# Altium schematic symbol library cf2loco.SchLib: 10 symbols
Pins are listed as number, name and electrical type; pins without a type are passive.

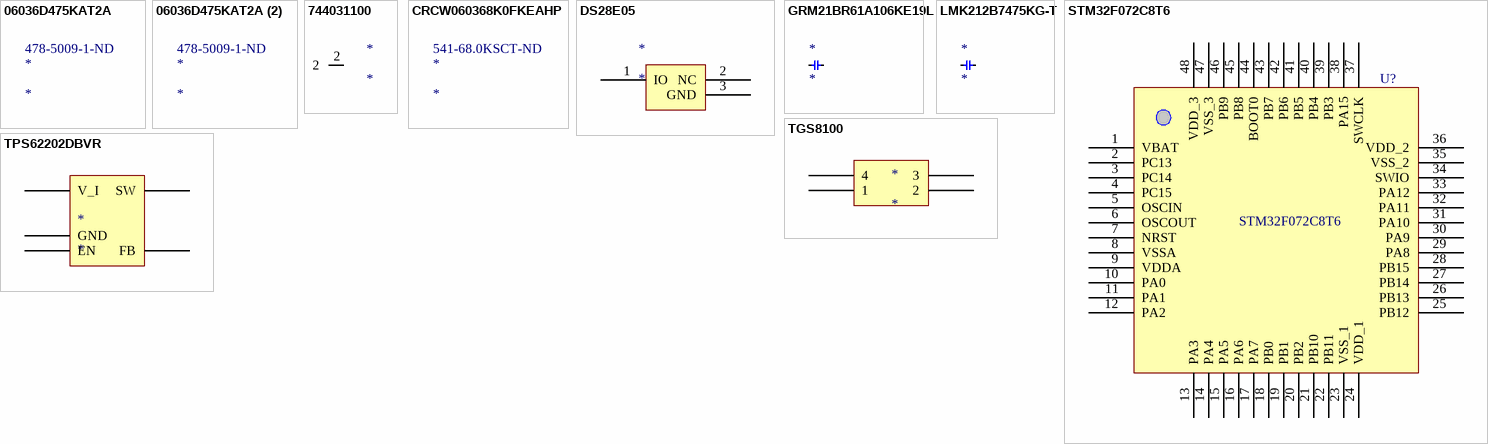
[diagram p0: symbols 06036D475KAT2A to TPS62202DBVR]

## 06036D475KAT2A
designator *  Supplier Part Number 1: 478-5009-1-ND
AVX - 06036D475KAT2A - SMD Multilayer Ceramic Capacitor, 4.7 F, 10%, X5R, 6.3 V, 0603 [1608 Metric] RoHS Compliant: Yes; Manufacturer: Kyocera AVX; Capacitance: 4.7uF; Tolerance: 20%; Voltage Rating (DC): 6.3V; Supplier 1: Digi-Key; Manufacturer Part Number: 06036D475KAT2A; RoHS: Yes; Category: Ceramic Capacitors; Stock 1: 13028; Pricing 1: 1=0.17000, 10=0.12300, 50=0.06980, 100=0.05790, 500=0.04060, 1000=0.03361 (USD); Mount: Surface Mount,PCB; Case/Package: 0603; Number of Pins: 2; Case Code (Metric): 1608; Case Code (Imperial): 0603; Contact Plating: Tin,Matte; Dielectric Material: Ceramic; Min Operating Temperature: -55°C; Max Operating Temperature: 85°C; Dielectric: X5R; Packaging: Tape and Reel; Voltage Rating: 6.3V; Package Quantity: 1; Termination: SMD/SMT; Voltage: 6.3V; Length: 1.6mm; Height: 0.9mm; Depth: 0.81mm; Width: 0.032inch; Thickness: 0.035inch; Radiation Hardening: No; REACH SVHC: No SVHC; Lead Free: Lead Free; ComponentLink1URL: https://datasheet.ciiva.com/1458/1796776-1458120.pdf?src-supplier=Element14; ComponentLink1Description: https://datasheet.ciiva.com/1458/1796776-1458120.pdf?src-supplier=Element14; ComponentLink2URL: https://datasheet.ciiva.com/15212/getdatasheetpartid-149720-15212362.pdf?src-supplier=Verical; ComponentLink2Description: https://datasheet.ciiva.com/15212/getdatasheetpartid-149720-15212362.pdf?src-supplier=Verical; ComponentLink3URL: https://datasheet.ciiva.com/151/cx5r-151515.pdf?src-supplier=Digi-Key; ComponentLink3Description: https://datasheet.ciiva.com/151/cx5r-151515.pdf?src-supplier=Digi-Key; ComponentLink4URL: https://datasheet.ciiva.com/151/cx5r-151516.pdf?src-supplier=Digi-Key; ComponentLink4Description: https://datasheet.ciiva.com/151/cx5r-151516.pdf?src-supplier=Digi-Key; ComponentLink5URL: https://datasheet.ciiva.com/22677/lt-22677180.pdf?src-supplier=Element14; ComponentLink5Description: https://datasheet.ciiva.com/22677/lt-22677180.pdf?src-supplier=Element14; ComponentLink6URL: https://datasheet.ciiva.com/22700/1796776-22700572.pdf?src-supplier=Element14; ComponentLink6Description: https://datasheet.ciiva.com/22700/1796776-22700572.pdf?src-supplier=Element14; ComponentLink7URL: https://datasheet.ciiva.com/151/cx5r-151517.pdf?src-supplier=Digi-Key; ComponentLink7Description: https://datasheet.ciiva.com/151/cx5r-151517.pdf?src-supplier=Digi-Key; ComponentLink8URL: https://datasheet.ciiva.com/2987/cx5r-2987869.pdf?src-supplier=Avnet; ComponentLink8Description: https://datasheet.ciiva.com/2987/cx5r-2987869.pdf?src-supplier=Avnet; ComponentLink9URL: https://datasheet.ciiva.com/6150/lt-6150797.pdf?src-supplier=Farnell; ComponentLink9Description: https://datasheet.ciiva.com/6150/lt-6150797.pdf?src-supplier=Farnell; ComponentLink10URL: https://datasheet.ciiva.com/7855/1666675-7855102.pdf?src-supplier=Element14; ComponentLink10Description: https://datasheet.ciiva.com/7855/1666675-7855102.pdf?src-supplier=Element14

## 06036D475KAT2A (2)
designator *  Supplier Part Number 1: 478-5009-1-ND
AVX - 06036D475KAT2A - SMD Multilayer Ceramic Capacitor, 4.7 F, 10%, X5R, 6.3 V, 0603 [1608 Metric] RoHS Compliant: Yes; Manufacturer: Kyocera AVX; Capacitance: 4.7uF; Tolerance: 20%; Voltage Rating (DC): 6.3V; Supplier 1: Digi-Key; Manufacturer Part Number: 06036D475KAT2A; RoHS: Yes; Category: Ceramic Capacitors; Stock 1: 13028; Pricing 1: 1=0.17000, 10=0.12300, 50=0.06980, 100=0.05790, 500=0.04060, 1000=0.03361 (USD); Mount: Surface Mount,PCB; Case/Package: 0603; Number of Pins: 2; Case Code (Metric): 1608; Case Code (Imperial): 0603; Contact Plating: Tin,Matte; Dielectric Material: Ceramic; Min Operating Temperature: -55°C; Max Operating Temperature: 85°C; Dielectric: X5R; Packaging: Tape and Reel; Voltage Rating: 6.3V; Package Quantity: 1; Termination: SMD/SMT; Voltage: 6.3V; Length: 1.6mm; Height: 0.9mm; Depth: 0.81mm; Width: 0.032inch; Thickness: 0.035inch; Radiation Hardening: No; REACH SVHC: No SVHC; Lead Free: Lead Free; ComponentLink1URL: https://datasheet.ciiva.com/1458/1796776-1458120.pdf?src-supplier=Element14; ComponentLink1Description: https://datasheet.ciiva.com/1458/1796776-1458120.pdf?src-supplier=Element14; ComponentLink2URL: https://datasheet.ciiva.com/15212/getdatasheetpartid-149720-15212362.pdf?src-supplier=Verical; ComponentLink2Description: https://datasheet.ciiva.com/15212/getdatasheetpartid-149720-15212362.pdf?src-supplier=Verical; ComponentLink3URL: https://datasheet.ciiva.com/151/cx5r-151515.pdf?src-supplier=Digi-Key; ComponentLink3Description: https://datasheet.ciiva.com/151/cx5r-151515.pdf?src-supplier=Digi-Key; ComponentLink4URL: https://datasheet.ciiva.com/151/cx5r-151516.pdf?src-supplier=Digi-Key; ComponentLink4Description: https://datasheet.ciiva.com/151/cx5r-151516.pdf?src-supplier=Digi-Key; ComponentLink5URL: https://datasheet.ciiva.com/22677/lt-22677180.pdf?src-supplier=Element14; ComponentLink5Description: https://datasheet.ciiva.com/22677/lt-22677180.pdf?src-supplier=Element14; ComponentLink6URL: https://datasheet.ciiva.com/22700/1796776-22700572.pdf?src-supplier=Element14; ComponentLink6Description: https://datasheet.ciiva.com/22700/1796776-22700572.pdf?src-supplier=Element14; ComponentLink7URL: https://datasheet.ciiva.com/151/cx5r-151517.pdf?src-supplier=Digi-Key; ComponentLink7Description: https://datasheet.ciiva.com/151/cx5r-151517.pdf?src-supplier=Digi-Key; ComponentLink8URL: https://datasheet.ciiva.com/2987/cx5r-2987869.pdf?src-supplier=Avnet; ComponentLink8Description: https://datasheet.ciiva.com/2987/cx5r-2987869.pdf?src-supplier=Avnet; ComponentLink9URL: https://datasheet.ciiva.com/6150/lt-6150797.pdf?src-supplier=Farnell; ComponentLink9Description: https://datasheet.ciiva.com/6150/lt-6150797.pdf?src-supplier=Farnell; ComponentLink10URL: https://datasheet.ciiva.com/7855/1666675-7855102.pdf?src-supplier=Element14; ComponentLink10Description: https://datasheet.ciiva.com/7855/1666675-7855102.pdf?src-supplier=Element14

## 744031100
designator *
FIXED IND 10UH 740MA 205 MOHM; Manufacturer: Wurth Electronics; Manufacturer Part Number: 744031100; Core Material: Ferrite; Inductance Tolerance: 30%; Self Resonant Frequency: 45MHz; Saturation Current: 560mA; Shielding: Shielded; DC Resistance (DCR): 205mR; Test Frequency: 100kHz; Supplier 1: Digi-Key; RoHS: Yes; Stock 1: 2373; Pricing 1: 1=1.43000, 10=1.38900, 50=1.21500, 100=1.11100, 500=0.98000 (USD); Mount: Surface Mount; Weight: 0.003633oz; Max Operating Temperature: 125°C; Inductance: 10uH; Tolerance: 30%; Package Quantity: 1000; Current Rating: 740mA; Packaging: Tape and Reel; Composition: Wirewound; Max DC Current: 740mA; Termination: SMD/SMT; RMS Current (Irms): 740mA; Series Resistance: 205mR; Length: 3.8mm; Height: 1.65mm; Width: 3.8mm; Height - Seated (Max): 0.071inch; REACH SVHC: Unknown; Lead Free: Lead Free; ComponentLink1URL: https://datasheet.ciiva.com/11799/0900766b8079f7b2-11799684.pdf?src-supplier=RSComponents; ComponentLink1Description: https://datasheet.ciiva.com/11799/0900766b8079f7b2-11799684.pdf?src-supplier=RSComponents; ComponentLink2URL: https://datasheet.ciiva.com/1567/744031100-1567208.pdf?src-supplier=Newark; ComponentLink2Description: https://datasheet.ciiva.com/1567/744031100-1567208.pdf?src-supplier=Newark; ComponentLink3URL: https://datasheet.ciiva.com/4961/744031100-72715-4961390.pdf?src-supplier=Mouser; ComponentLink3Description: https://datasheet.ciiva.com/4961/744031100-72715-4961390.pdf?src-supplier=Mouser; ComponentLink4URL: https://datasheet.ciiva.com/1473/744031100-1473424.pdf?src-supplier=Element14; ComponentLink4Description: https://datasheet.ciiva.com/1473/744031100-1473424.pdf?src-supplier=Element14; ComponentLink5URL: https://datasheet.ciiva.com/1473/744031100-1473425.pdf?src-supplier=Element14; ComponentLink5Description: https://datasheet.ciiva.com/1473/744031100-1473425.pdf?src-supplier=Element14; ComponentLink6URL: https://datasheet.ciiva.com/1050/744031100-1050621.pdf?src-supplier=Digi-Key; ComponentLink6Description: https://datasheet.ciiva.com/1050/744031100-1050621.pdf?src-supplier=Digi-Key; ComponentLink7URL: https://datasheet.ciiva.com/1050/744031100-1050622.pdf?src-supplier=Digi-Key; ComponentLink7Description: https://datasheet.ciiva.com/1050/744031100-1050622.pdf?src-supplier=Digi-Key; ComponentLink8URL: https://datasheet.ciiva.com/1050/744031100-1050623.pdf?src-supplier=Digi-Key; ComponentLink8Description: https://datasheet.ciiva.com/1050/744031100-1050623.pdf?src-supplier=Digi-Key; ComponentLink9URL: https://datasheet.ciiva.com/48691/001087154-da-01-ml-we-tpc-smd-speicherdrossel-7440311-de-en-48691029.pdf?src-supplier=Conrad; ComponentLink9Description: https://datasheet.ciiva.com/48691/001087154-da-01-ml-we-tpc-smd-speicherdrossel-7440311-de-en-48691029.pdf?src-supplier=Conrad; Min Operating Temperature: -40°C; Category: Fixed Inductors; Case/Package: Nonstandard; Supplier Part Number 1: 732-1010-1-ND
pins: 2

## CRCW060368K0FKEAHP
designator *  Supplier Part Number 1: 541-68.0KSCT-ND
VISHAY         CRCW060368K0FKEAHP             SMD Chip Resistor, Thick Film, 68 kohm, 75 V, 0603 [1608 Metric], 250 mW,  1%; Resistance: 68kR; Temperature Coefficient: 100ppm/°C; Power Rating: 250mW; Voltage Rating: 75V; Supplier 1: Digi-Key; Manufacturer: Vishay; Manufacturer Part Number: CRCW060368K0FKEAHP; RoHS: Yes; Category: Chip SMD Resistors; Stock 1: 3390; Pricing 1: 1=0.16000, 10=0.13600, 100=0.05330, 1000=0.02232, 2500=0.02046 (USD); Mount: Surface Mount; Case/Package: 0603; Contact Plating: Tin; Case Code (Metric): 1608; Case Code (Imperial): 0603; Min Operating Temperature: -55°C; Max Operating Temperature: 155°C; Tolerance: 1%; Composition: Thick Film; Termination: Wraparound; Packaging: Cut Tape; Features: Automotive AEC-Q200; Package Quantity: 1; Max Power Dissipation: 250mW; Number of Terminations: 2; Length: 0.063inch; Height: 0.022inch; Width: 0.033inch; REACH SVHC: Unknown; ComponentLink1URL: https://datasheet.ciiva.com/6551/crcwhpe3-6551637.pdf?src-supplier=Digi-Key; ComponentLink1Description: https://datasheet.ciiva.com/6551/crcwhpe3-6551637.pdf?src-supplier=Digi-Key; ComponentLink2URL: https://datasheet.ciiva.com/6551/crcwhpe3-6551639.pdf?src-supplier=Digi-Key; ComponentLink2Description: https://datasheet.ciiva.com/6551/crcwhpe3-6551639.pdf?src-supplier=Digi-Key; ComponentLink3URL: https://datasheet.ciiva.com/48525/crcwhpe3-48525769.pdf?src-supplier=Avnet; ComponentLink3Description: https://datasheet.ciiva.com/48525/crcwhpe3-48525769.pdf?src-supplier=Avnet; ComponentLink4URL: https://datasheet.ciiva.com/6551/crcwhpe3-6551642.pdf?src-supplier=Digi-Key; ComponentLink4Description: https://datasheet.ciiva.com/6551/crcwhpe3-6551642.pdf?src-supplier=Digi-Key; ComponentLink5URL: https://datasheet.ciiva.com/7672/1885357-7672924.pdf?src-supplier=Element14; ComponentLink5Description: https://datasheet.ciiva.com/7672/1885357-7672924.pdf?src-supplier=Element14; ComponentLink6URL: https://datasheet.ciiva.com/7672/1885357-7672925.pdf?src-supplier=Element14; ComponentLink6Description: https://datasheet.ciiva.com/7672/1885357-7672925.pdf?src-supplier=Element14

## DS28E05
designator *
Supplier 1: Farnell; Supplier 2: Digi-Key
pins: 1 IO, 2 NC, 3 GND

## GRM21BR61A106KE19L
designator *
Capacitor 10 uF 10 VDC PU=3000 ST, GRM21BR61A106KE19L, Murata; Tolerance: 10%; Voltage Rating: 10V; Capacitance: 10uF; Dielectric: X5R; Supplier 1: Future Electronics; Manufacturer: Murata; Manufacturer Part Number: GRM21BR61A106KE19L; RoHS: Yes; Category: Ceramic Capacitors; Stock 1: 120000; Pricing 1: 3000=0.01840 (USD); Mount: Surface Mount; Case/Package: 0805; Number of Pins: 2; Case Code (Metric): 2012; Case Code (Imperial): 0805; Min Operating Temperature: -55°C; Max Operating Temperature: 85°C; Packaging: Tape and Reel; Package Quantity: 1; Termination: SMD/SMT; Voltage: 10V; Voltage Rating (DC): 10V; Length: 2mm; Height: 1.25mm; Width: 0.049inch; Depth: 1.25mm; Thickness: 0.053inch; Radiation Hardening: No; REACH SVHC: Unknown; Lead Free: Lead Free; ComponentLink1URL: https://datasheet.ciiva.com/11789/0900766b80936815-11789356.pdf?src-supplier=RSComponents; ComponentLink1Description: https://datasheet.ciiva.com/11789/0900766b80936815-11789356.pdf?src-supplier=RSComponents; ComponentLink2URL: https://datasheet.ciiva.com/3777/210grm21br61a106ke1923-3777175.pdf?src-supplier=Arrow+Electronics; ComponentLink2Description: https://datasheet.ciiva.com/3777/210grm21br61a106ke1923-3777175.pdf?src-supplier=Arrow+Electronics; ComponentLink3URL: https://datasheet.ciiva.com/169/partnumbering-e-01-169286.pdf?src-supplier=Digi-Key; ComponentLink3Description: https://datasheet.ciiva.com/169/partnumbering-e-01-169286.pdf?src-supplier=Digi-Key; ComponentLink4URL: https://datasheet.ciiva.com/14116/nmgrm-data-en-14116726.pdf?src-supplier=Distrelec; ComponentLink4Description: https://datasheet.ciiva.com/14116/nmgrm-data-en-14116726.pdf?src-supplier=Distrelec; ComponentLink5URL: https://datasheet.ciiva.com/169/partnumbering-e-01-169287.pdf?src-supplier=Digi-Key; ComponentLink5Description: https://datasheet.ciiva.com/169/partnumbering-e-01-169287.pdf?src-supplier=Digi-Key; ComponentLink6URL: https://datasheet.ciiva.com/169/partnumbering-e-01-169288.pdf?src-supplier=Digi-Key; ComponentLink6Description: https://datasheet.ciiva.com/169/partnumbering-e-01-169288.pdf?src-supplier=Digi-Key; ComponentLink7URL: https://datasheet.ciiva.com/28685/608985-28685400.pdf?src-supplier=Element14; ComponentLink7Description: https://datasheet.ciiva.com/28685/608985-28685400.pdf?src-supplier=Element14; ComponentLink8URL: https://datasheet.ciiva.com/28584/608985-28584267.pdf?src-supplier=Element14; ComponentLink8Description: https://datasheet.ciiva.com/28584/608985-28584267.pdf?src-supplier=Element14; ComponentLink9URL: https://datasheet.ciiva.com/5422/product-5422909.pdf?src-supplier=Mouser; ComponentLink9Description: https://datasheet.ciiva.com/5422/product-5422909.pdf?src-supplier=Mouser
pins: 1, 2

## LMK212B7475KG-T
designator *
TAIYO YUDEN - LMK212B7475KG-T - Keramikvielschichtkondensator, SMD, 4.7 µF, 10 V, 0805 [Metrisch 2012], ± 10%, X7R, Baureihe M; Capacitance: 4.7uF; Voltage Rating: 10V; Supplier 1: Digi-Key; Manufacturer: Taiyo Yuden; Manufacturer Part Number: LMK212B7475KG-T; RoHS: Yes; Category: Ceramic Capacitors; Stock 1: 216632; Pricing 1: 1=0.24000, 10=0.16300, 50=0.09800, 100=0.08280, 500=0.05662, 1000=0.05009 (USD); Mount: Surface Mount; Case/Package: 0805; Number of Pins: 2; Case Code (Metric): 2012; Case Code (Imperial): 0805; Min Operating Temperature: -55°C; Max Operating Temperature: 125°C; Tolerance: 10%; Packaging: Tape and Reel; Dielectric: X7R; Package Quantity: 3000; Termination: SMD/SMT; Voltage Rating (DC): 10V; Length: 0.079inch; Height: 1.25mm; Width: 0.049inch; Thickness: 0.053inch; REACH SVHC: Unknown; Halogen Free: Halogen Free; ComponentLink1URL: https://datasheet.ciiva.com/137/lmk212b7475kg-t-ss-137072.pdf?src-supplier=Digi-Key; ComponentLink1Description: https://datasheet.ciiva.com/137/lmk212b7475kg-t-ss-137072.pdf?src-supplier=Digi-Key; ComponentLink2URL: https://datasheet.ciiva.com/7975/1639107-7975569.pdf?src-supplier=Element14; ComponentLink2Description: https://datasheet.ciiva.com/7975/1639107-7975569.pdf?src-supplier=Element14; ComponentLink3URL: https://datasheet.ciiva.com/15921/1071lmk212b7475kg-t-15921340.pdf?src-supplier=Onlinecomponents.com; ComponentLink3Description: https://datasheet.ciiva.com/15921/1071lmk212b7475kg-t-15921340.pdf?src-supplier=Onlinecomponents.com; ComponentLink4URL: https://datasheet.ciiva.com/30138/651lmk212b7475kg-t-30138671.pdf?src-supplier=Onlinecomponents.com; ComponentLink4Description: https://datasheet.ciiva.com/30138/651lmk212b7475kg-t-30138671.pdf?src-supplier=Onlinecomponents.com; ComponentLink5URL: https://datasheet.ciiva.com/28645/1481447-28645176.pdf?src-supplier=Element14; ComponentLink5Description: https://datasheet.ciiva.com/28645/1481447-28645176.pdf?src-supplier=Element14; Supplier Part Number 1: 587-1442-1-ND
pins: 1, 2

## STM32F072C8T6
designator U?
footprint STM32f072C8T6
pins: 1 VBAT, 2 PC13, 3 PC14, 4 PC15, 5 OSCIN, 6 OSCOUT, 7 NRST, 8 VSSA, 9 VDDA, 10 PA0, 11 PA1, 12 PA2, 13 PA3, 14 PA4, 15 PA5, 16 PA6, 17 PA7, 18 PB0, 19 PB1, 20 PB2, 21 PB10, 22 PB11, 23 VSS_1, 24 VDD_1, 25 PB12, 26 PB13, 27 PB14, 28 PB15, 29 PA8, 30 PA9, 31 PA10, 32 PA11, 33 PA12, 34 SWIO, 35 VSS_2, 36 VDD_2, 37 SWCLK, 38 PA15, 39 PB3, 40 PB4, 41 PB5, 42 PB6, 43 PB7, 44 BOOT0, 45 PB8, 46 PB9, 47 VSS_3, 48 VDD_3

## TGS8100
designator *
pins: 1, 2, 3, 4

## TPS62202DBVR
designator *
Conv DC-DC Single Step Down 2.5V to 6V 5-Pin SOT-23 T/R; Manufacturer: Texas Instruments; Manufacturer Part Number: TPS62202DBVR; Synchronous Rectifier: Yes; Min Output Voltage: 700mV; Quiescent Current: 15uA; Output Type: Fixed; Number of Outputs: 1; Output Voltage: 1.8V; Output Current: 300mA; Efficiency: 95%; Switching Frequency: 1MHz; Supplier 1: Digi-Key; RoHS: Yes; Category: Voltage Regulators - Switching; Stock 1: 5358; Pricing 1: 1=1.19000, 10=1.06200, 25=1.00800, 100=0.77400, 250=0.68400, 500=0.64800, 1000=0.50400 (USD); Mount: Surface Mount; Case/Package: SOT-23; Number of Pins: 5; Min Operating Temperature: -40°C; Max Operating Temperature: 85°C; Operating Supply Voltage: 6V; Max Output Current: 300mA; Package Quantity: 1; Packaging: Tape and Reel; Min Input Voltage: 2.5V; Max Input Voltage: 6V; Max Output Voltage: 6V; Nominal Output Voltage: 1.8V; Length: 3.05mm; Height: 1.3mm; Width: 1.6mm; Radiation Hardening: No; Lead Free: Lead Free; REACH SVHC: No SVHC; ComponentLink1URL: https://datasheet.ciiva.com/15113/getdatasheetpartid-224292-15113871.pdf?src-supplier=Verical; ComponentLink1Description: https://datasheet.ciiva.com/15113/getdatasheetpartid-224292-15113871.pdf?src-supplier=Verical; ComponentLink2URL: https://datasheet.ciiva.com/26896/tps62202dbvr-26896600.pdf?src-supplier=IIIC; ComponentLink2Description: https://datasheet.ciiva.com/26896/tps62202dbvr-26896600.pdf?src-supplier=IIIC; ComponentLink3URL: https://datasheet.ciiva.com/2025/tps62200-2025367.pdf?src-supplier=Digi-Key; ComponentLink3Description: https://datasheet.ciiva.com/2025/tps62200-2025367.pdf?src-supplier=Digi-Key; ComponentLink4URL: https://datasheet.ciiva.com/2025/tps62200-2025368.pdf?src-supplier=Digi-Key; ComponentLink4Description: https://datasheet.ciiva.com/2025/tps62200-2025368.pdf?src-supplier=Digi-Key; ComponentLink5URL: https://datasheet.ciiva.com/3220/tps62204-3220328.pdf?src-supplier=Avnet; ComponentLink5Description: https://datasheet.ciiva.com/3220/tps62204-3220328.pdf?src-supplier=Avnet; ComponentLink6URL: https://datasheet.ciiva.com/2025/tps62200-2025369.pdf?src-supplier=Digi-Key; ComponentLink6Description: https://datasheet.ciiva.com/2025/tps62200-2025369.pdf?src-supplier=Digi-Key; ComponentLink7URL: https://datasheet.ciiva.com/26249/tps62204-26249036.pdf?src-supplier=Avnet+Europe; ComponentLink7Description: https://datasheet.ciiva.com/26249/tps62204-26249036.pdf?src-supplier=Avnet+Europe; Supplier Part Number 1: 296-16730-1-ND
pins: ?1 V_I, ?2 GND, ?3 EN, ?4 SW, ?5 FB